# EAGLE library part LM393 (library ATMEGA328PB-AN)
LM393: Dual Comparator
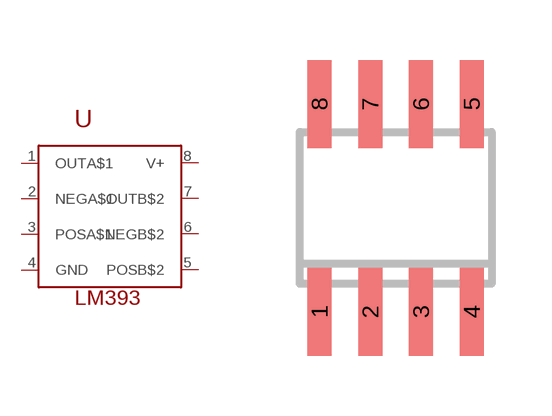
[diagram p3: symbol with the pads of SO8; footprint SO8]

Designator prefix U

## LM393  [SO8]
1  OUTA$1
2  NEGA$1
3  POSA$1
4  GND  pwr
5  POSB$2
6  NEGB$2
7  OUTB$2
8  V+

## Footprint SO8 (pad centres in mm)
SMALL OUTLINE INTEGRATED CIRCUIT
smd 0.6 x 2.2: 1 -1.905,-2.6; 2 -0.635,-2.6; 3 0.635,-2.6; 4 1.905,-2.6; 5 1.905,2.6; 6 0.635,2.6; 7 -0.635,2.6; 8 -1.905,2.6